# EAGLE library part 23AXX (library dp_devices)
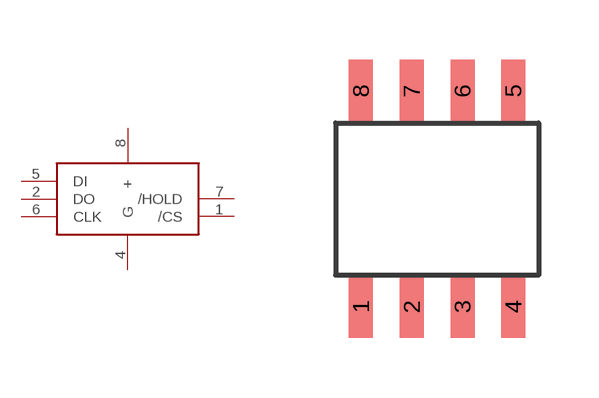
[diagram p0: symbol with the pads of SO8; footprint SO8]

Designator prefix -

## 23AXXSO8  [SO8]
1  /CS
2  DO
4  G  pwr
5  DI
6  CLK
7  /HOLD
8  +  pwr

## Footprint SO8 (pad centres in mm)
smd 0.6 x 1.55: 1 -1.905,-2.69; 2 -0.635,-2.69; 3 0.635,-2.69; 4 1.905,-2.69; 5 1.905,2.71; 6 0.635,2.71; 7 -0.635,2.71; 8 -1.905,2.71